# Altium footprint library OptoCoup_Fairchild_FOD817ASD_4-SMD.PcbLib: 1 footprints
Each footprint in its own frame and in the unit in brackets; x right, y up, seen from the top. Pads: shape width x height; smd on the part's side, far side on the other; paste and mask are expansions set on the pad; w line width, h text height; cw(c..) or ccw(c..) is an arc to the next point about the centre after c.
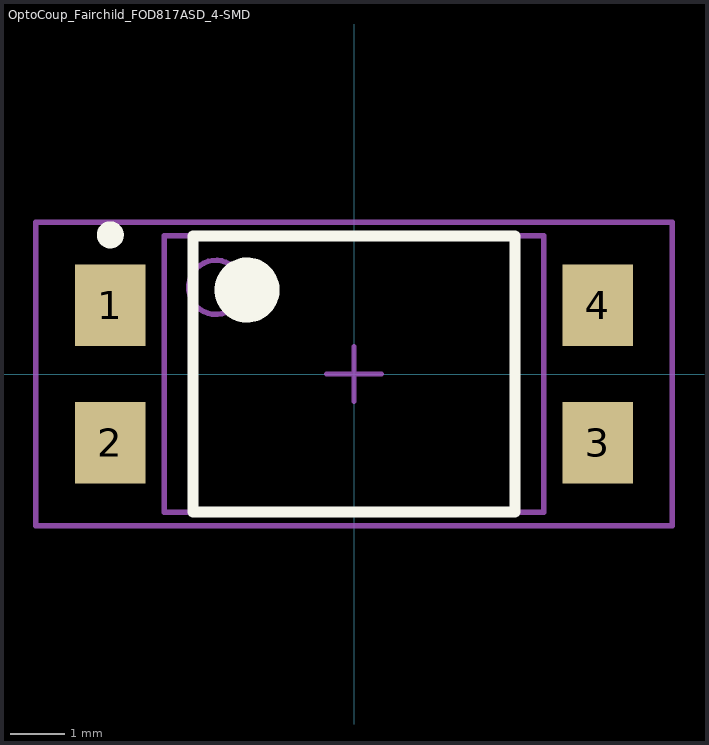
[diagram p0: the footprint, top view; thin cyan lines are the x and y axes]

## OptoCoup_Fairchild_FOD817ASD_4-SMD [mm]
height 4.6
pads (4):
  rect 1.3x1.5 smd: 1(-4.5,1.27) 2(-4.5,-1.27) 3(4.5,-1.27) 4(4.5,1.27)
Top Overlay:
  circle w0.6: c-1.975,1.55 r0.3
  circle w0.25: c-4.5,2.57 r0.125
  lines w0.2: -2.975,-2.55 2.975,-2.55 2.975,2.55 -2.975,2.55 -2.975,-2.55
Mechanical 13:
  circle w0.1: c-2.55,1.6 r0.5
  lines w0.1: -3.5,-2.55 3.5,-2.55 3.5,2.55 -3.5,2.55 -3.5,-2.55
Mechanical 15:
  lines w0.1: -0.5,0 0.5,0 ; 0,-0.5 0,0.5 ; -5.875,-2.8 5.875,-2.8 5.875,2.8 -5.875,2.8 -5.875,-2.8
3D body: height 4.6, standoff 0.1, extent -3.5,-2.55 3.5,2.55